# EAGLE library part 4455-B22_S (library con-molex-kk)
RECEPTACAL
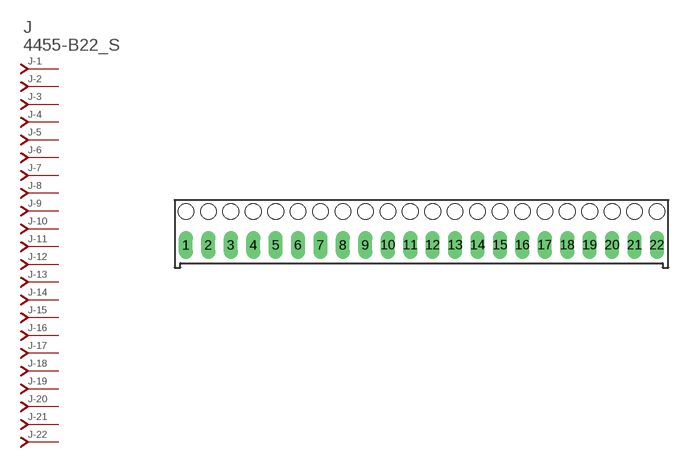
[diagram p21: symbol with the pads of 4455-B22; footprint 4455-B22]

Designator prefix J; gates -1=J-NV -2=J-N -3=J-N -4=J-N -5=J-N -6=J-N -7=J-N -8=J-N -9=J-N -10=J-N -11=J-N -12=J-N -13=J-N -14=J-N -15=J-N -16=J-N -17=J-N -18=J-N -19=J-N -20=J-N -21=J-N -22=J-N

## 4455-B22_S  [4455-B22]
1  -1:J  pas
2  -2:J  pas
3  -3:J  pas
4  -4:J  pas
5  -5:J  pas
6  -6:J  pas
7  -7:J  pas
8  -8:J  pas
9  -9:J  pas
10  -10:J  pas
11  -11:J  pas
12  -12:J  pas
13  -13:J  pas
14  -14:J  pas
15  -15:J  pas
16  -16:J  pas
17  -17:J  pas
18  -18:J  pas
19  -19:J  pas
20  -20:J  pas
21  -21:J  pas
22  -22:J  pas

## Footprint 4455-B22 (pad centres in mm)
RECEPTACAL Vertical, Bottom Entry, 0.1" pitch
drill 1.067 long: 1 -26.67,0; 2 -24.13,0; 3 -21.59,0; 4 -19.05,0; 5 -16.51,0; 6 -13.97,0; 7 -11.43,0; 8 -8.89,0; 9 -6.35,0; 10 -3.81,0; 11 -1.27,0; 12 1.27,0; 13 3.81,0; 14 6.35,0; 15 8.89,0; 16 11.43,0; 17 13.97,0; 18 16.51,0; 19 19.05,0; 20 21.59,0; 21 24.13,0; 22 26.67,0
hole 1.778 at -26.67,3.81
hole 1.778 at -24.13,3.81
hole 1.778 at -21.59,3.81
hole 1.778 at -19.05,3.81
hole 1.778 at -16.51,3.81
hole 1.778 at -13.97,3.81
hole 1.778 at -11.43,3.81
hole 1.778 at -8.89,3.81
hole 1.778 at -6.35,3.81
hole 1.778 at -3.81,3.81
hole 1.778 at -1.27,3.81
hole 1.778 at 1.27,3.81
hole 1.778 at 3.81,3.81
hole 1.778 at 6.35,3.81
hole 1.778 at 8.89,3.81
hole 1.778 at 11.43,3.81
hole 1.778 at 13.97,3.81
hole 1.778 at 16.51,3.81
hole 1.778 at 19.05,3.81
hole 1.778 at 21.59,3.81
hole 1.778 at 24.13,3.81
hole 1.778 at 26.67,3.81